# Altium schematic symbol library ICs_Clock.SchLib: 16 symbols
Pins are listed as number, name and electrical type; pins without a type are passive.

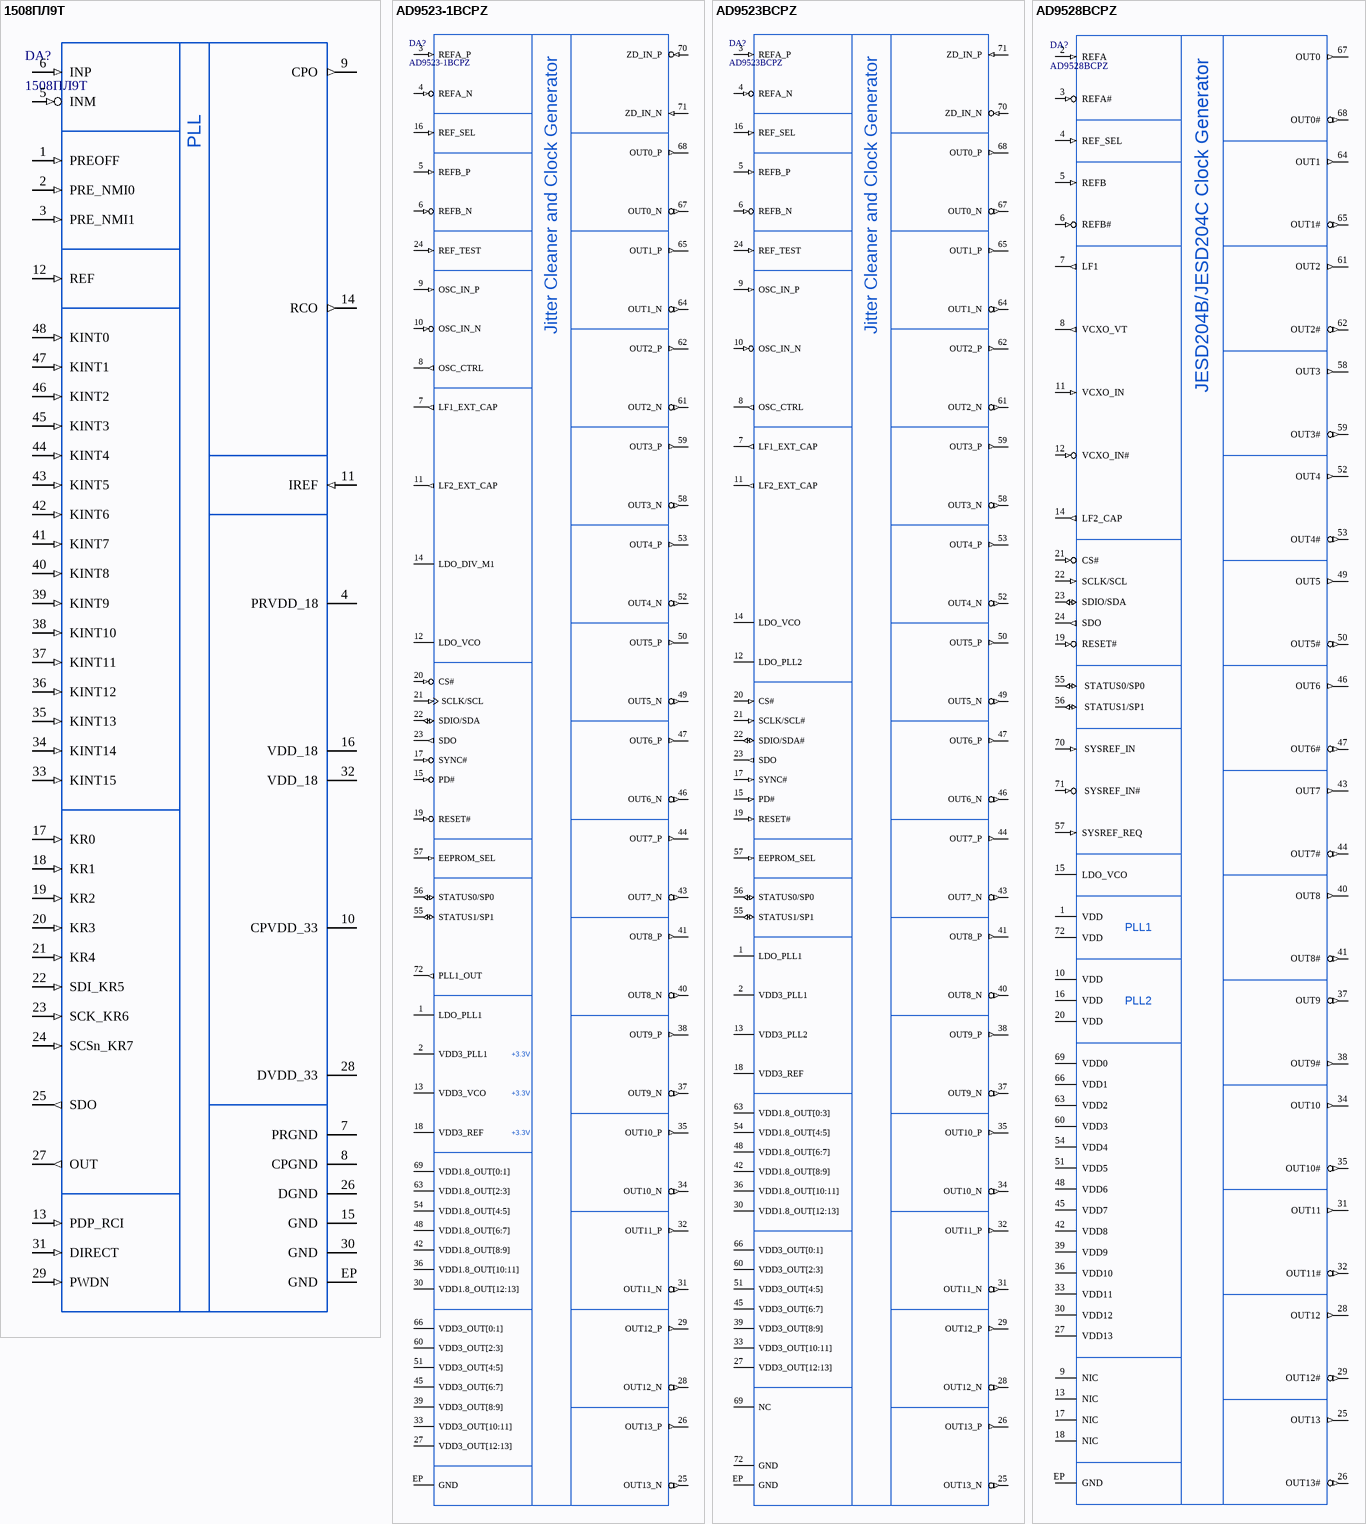
[diagram p0: symbols 1508ПЛ9Т to AD9528BCPZ]

## 1508ПЛ9Т
designator DA?
Low-Noise PLL; Manufacturer: ОАО НПЦ "ЭЛВИС"; ItemType: IC; PartNumber: 1508ПЛ9Т; Package: LQFP-48; Marking: 1508ПЛ9Т; ItemSubType: PLL; Mounting: SMD
footprint LQFP48_ELVEES (LQFP, 48-Leads, Body 7,00x7,00mm, Pitch 0,50mm)
pins: 1 PREOFF (in), 2 PRE_NMI0 (in), 3 PRE_NMI1 (in), 4 PRVDD_18 (power), 5 INM (in), 6 INP (in), 7 PRGND, 8 CPGND, 9 CPO (out), 10 CPVDD_33 (power), 11 IREF (in), 12 REF (in), 13 PDP_RCI (in), 14 RCO (out), 15 GND, 16 VDD_18 (power), 17 KR0 (in), 18 KR1 (in), 19 KR2 (in), 20 KR3 (in), 21 KR4 (in), 22 SDI_KR5 (in), 23 SCK_KR6 (in), 24 SCSn_KR7 (in), 25 SDO (out), 26 DGND, 27 OUT (out), 28 DVDD_33 (power), 29 PWDN (in), 30 GND, 31 DIRECT (in), 32 VDD_18 (power), 33 KINT15 (in), 34 KINT14 (in), 35 KINT13 (in), 36 KINT12 (in), 37 KINT11 (in), 38 KINT10 (in), 39 KINT9 (in), 40 KINT8 (in), 41 KINT7 (in), 42 KINT6 (in), 43 KINT5 (in), 44 KINT4 (in), 45 KINT3 (in), 46 KINT2 (in), 47 KINT1 (in), 48 KINT0 (in), EP GND

## AD9523-1BCPZ
designator DA?
Jitter Cleaner and Clock Generator with 14 Differential or 29 LVCMOS Outputs; Manufacturer: Analog Devices; ItemType: IC; Alternative1: AD9523-1BCPZ-REEL7; PartNumber: AD9523-1BCPZ; Package: LFCSP-72; ItemSubType: Clock; AltManufacturer1: Analog Devices; Mounting: SMD
footprint LFCSP-72 (CP-72-7) (LFCSP, 72-Leads, Body 10x10mm, Pitch 0.50mm, Thermal Pad 5.30x5.30mm. Compliant to JEDEC standards MO-220-VNND-4)
pins: 1 LDO_PLL1 (power), 2 VDD3_PLL1 (power), 3 REFA_P (in), 4 REFA_N (in), 5 REFB_P (in), 6 REFB_N (in), 7 LF1_EXT_CAP (out), 8 OSC_CTRL (out), 9 OSC_IN_P (in), 10 OSC_IN_N (in), 11 LF2_EXT_CAP (out), 12 LDO_VCO (power), 13 VDD3_VCO (power), 14 LDO_DIV_M1 (power), 15 PD# (in), 16 REF_SEL (in), 17 SYNC# (in), 18 VDD3_REF (power), 19 RESET# (in), 20 CS# (in), 21 SCLK/SCL (in), 22 SDIO/SDA (io), 23 SDO (out), 24 REF_TEST (in), 25 OUT13_N (out), 26 OUT13_P (out), 27 VDD3_OUT[12:13] (power), 28 OUT12_N (out), 29 OUT12_P (out), 30 VDD1.8_OUT[12:13] (power), 31 OUT11_N (out), 32 OUT11_P (out), 33 VDD3_OUT[10:11] (power), 34 OUT10_N (out), 35 OUT10_P (out), 36 VDD1.8_OUT[10:11] (power), 37 OUT9_N (out), 38 OUT9_P (out), 39 VDD3_OUT[8:9] (power), 40 OUT8_N (out), 41 OUT8_P (out), 42 VDD1.8_OUT[8:9] (power), 43 OUT7_N (out), 44 OUT7_P (out), 45 VDD3_OUT[6:7] (power), 46 OUT6_N (out), 47 OUT6_P (out), 48 VDD1.8_OUT[6:7] (power), 49 OUT5_N (out), 50 OUT5_P (out), 51 VDD3_OUT[4:5] (power), 52 OUT4_N (out), 53 OUT4_P (out), 54 VDD1.8_OUT[4:5] (power), 55 STATUS1/SP1 (io), 56 STATUS0/SP0 (io), 57 EEPROM_SEL (in), 58 OUT3_N (out), 59 OUT3_P (out), 60 VDD3_OUT[2:3] (power), 61 OUT2_N (out), 62 OUT2_P (out), 63 VDD1.8_OUT[2:3] (power), 64 OUT1_N (out), 65 OUT1_P (out), 66 VDD3_OUT[0:1] (power), 67 OUT0_N (out), 68 OUT0_P (out), 69 VDD1.8_OUT[0:1] (power), 70 ZD_IN_P (in), 71 ZD_IN_N (in), 72 PLL1_OUT (out), EP GND
text: Jitter Cleaner and Clock Generator; +3.3V

## AD9523BCPZ
designator DA?
Jitter Cleaner and Clock Generator with 14 Differential or 29 LVCMOS Outputs; Manufacturer: Analog Devices; ItemType: IC; Alternative1: AD9523BCPZ-REEL7; PartNumber: AD9523BCPZ; Package: LFCSP-72; ItemSubType: Clock; AltManufacturer1: Analog Devices; Mounting: SMD
footprint LFCSP-72 (CP-72-6) (LFCSP, 72-Leads, Body 10x10mm, Pitch 0.50mm, Thermal Pad 5.30x5.30mm. Compliant to JEDEC standards MO-220-VNND-4)
pins: 1 LDO_PLL1 (power), 2 VDD3_PLL1 (power), 3 REFA_P (in), 4 REFA_N (in), 5 REFB_P (in), 6 REFB_N (in), 7 LF1_EXT_CAP (out), 8 OSC_CTRL (out), 9 OSC_IN_P (in), 10 OSC_IN_N (in), 11 LF2_EXT_CAP (out), 12 LDO_PLL2 (power), 13 VDD3_PLL2 (power), 14 LDO_VCO (power), 15 PD# (in), 16 REF_SEL (in), 17 SYNC# (in), 18 VDD3_REF (power), 19 RESET# (in), 20 CS# (in), 21 SCLK/SCL# (in), 22 SDIO/SDA# (io), 23 SDO (out), 24 REF_TEST (in), 25 OUT13_N (out), 26 OUT13_P (out), 27 VDD3_OUT[12:13] (power), 28 OUT12_N (out), 29 OUT12_P (out), 30 VDD1.8_OUT[12:13] (power), 31 OUT11_N (out), 32 OUT11_P (out), 33 VDD3_OUT[10:11] (power), 34 OUT10_N (out), 35 OUT10_P (out), 36 VDD1.8_OUT[10:11] (power), 37 OUT9_N (out), 38 OUT9_P (out), 39 VDD3_OUT[8:9] (power), 40 OUT8_N (out), 41 OUT8_P (out), 42 VDD1.8_OUT[8:9] (power), 43 OUT7_N (out), 44 OUT7_P (out), 45 VDD3_OUT[6:7] (power), 46 OUT6_N (out), 47 OUT6_P (out), 48 VDD1.8_OUT[6:7] (power), 49 OUT5_N (out), 50 OUT5_P (out), 51 VDD3_OUT[4:5] (power), 52 OUT4_N (out), 53 OUT4_P (out), 54 VDD1.8_OUT[4:5] (power), 55 STATUS1/SP1 (io), 56 STATUS0/SP0 (io), 57 EEPROM_SEL (in), 58 OUT3_N (out), 59 OUT3_P (out), 60 VDD3_OUT[2:3] (power), 61 OUT2_N (out), 62 OUT2_P (out), 63 VDD1.8_OUT[0:3] (power), 64 OUT1_N (out), 65 OUT1_P (out), 66 VDD3_OUT[0:1] (power), 67 OUT0_N (out), 68 OUT0_P (out), 69 NC (hiz), 70 ZD_IN_N (in), 71 ZD_IN_P (in), 72 GND, EP GND
text: Jitter Cleaner and Clock Generator

## AD9528BCPZ
designator DA?
JESD204B/JESD204C Clock Generator with 14 LVDS/HSTL Outputs; Manufacturer: Analog Devices; ItemType: IC; Alternative1: AD9528BCPZ-REEL7; PartNumber: AD9528BCPZ; Package: LFCSP-72; ItemSubType: Clock; AltManufacturer1: Analog Devices; Mounting: SMD
footprint LFCSP-72 (CP-72-6) (LFCSP, 72-Leads, Body 10x10mm, Pitch 0.50mm, Thermal Pad 5.30x5.30mm. Compliant to JEDEC standards MO-220-VNND-4)
pins: 1 VDD (power), 2 REFA (in), 3 REFA# (in), 4 REF_SEL (in), 5 REFB (in), 6 REFB# (in), 7 LF1 (out), 8 VCXO_VT (out), 9 NIC (hiz), 10 VDD (power), 11 VCXO_IN (in), 12 VCXO_IN# (in), 13 NIC (hiz), 14 LF2_CAP (out), 15 LDO_VCO (power), 16 VDD (power), 17 NIC (hiz), 18 NIC (hiz), 19 RESET# (in), 20 VDD (power), 21 CS# (in), 22 SCLK/SCL (in), 23 SDIO/SDA (io), 24 SDO (out), 25 OUT13 (out), 26 OUT13# (out), 27 VDD13 (power), 28 OUT12 (out), 29 OUT12# (out), 30 VDD12 (power), 31 OUT11 (out), 32 OUT11# (out), 33 VDD11 (power), 34 OUT10 (out), 35 OUT10# (out), 36 VDD10 (power), 37 OUT9 (out), 38 OUT9# (out), 39 VDD9 (power), 40 OUT8 (out), 41 OUT8# (out), 42 VDD8 (power), 43 OUT7 (out), 44 OUT7# (out), 45 VDD7 (power), 46 OUT6 (out), 47 OUT6# (out), 48 VDD6 (power), 49 OUT5 (out), 50 OUT5# (out), 51 VDD5 (power), 52 OUT4 (out), 53 OUT4# (out), 54 VDD4 (power), 55  STATUS0/SP0 (io), 56  STATUS1/SP1 (io), 57 SYSREF_REQ (in), 58 OUT3 (out), 59 OUT3# (out), 60 VDD3 (power), 61 OUT2 (out), 62 OUT2# (out), 63 VDD2 (power), 64 OUT1 (out), 65 OUT1# (out), 66 VDD1 (power), 67 OUT0 (out), 68 OUT0# (out), 69 VDD0 (power), 70  SYSREF_IN (in), 71  SYSREF_IN# (in), 72 VDD (power), EP GND
text: JESD204B/JESD204C Clock Generator; PLL1; PLL2

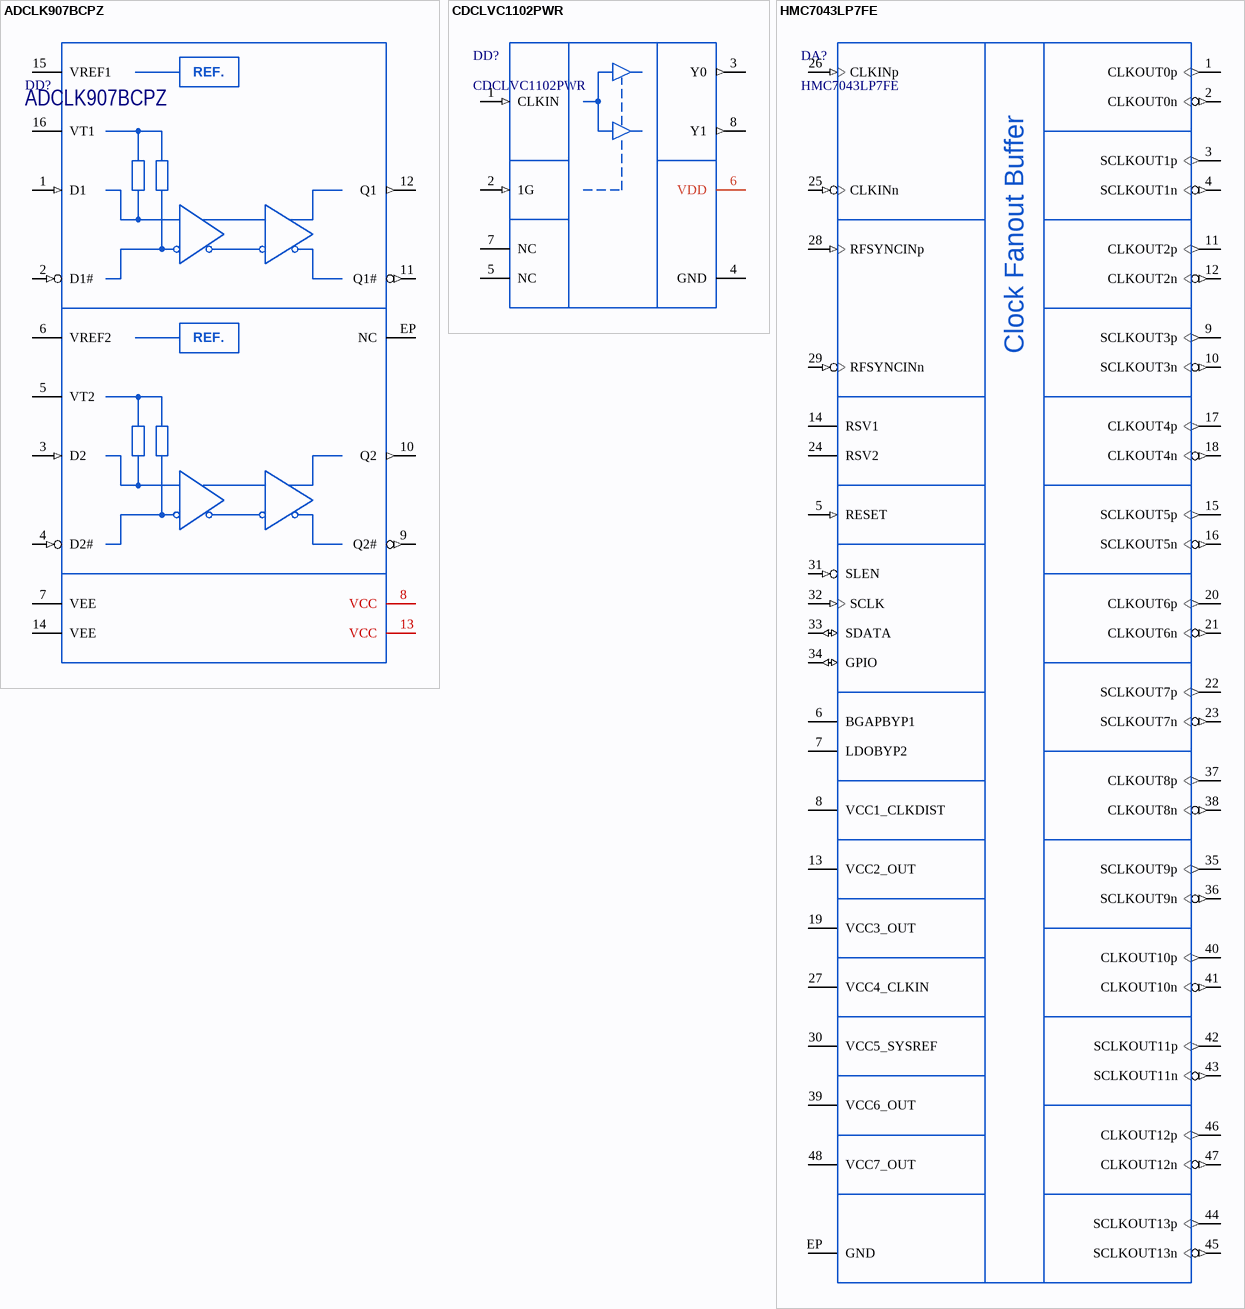
[diagram p1: symbols ADCLK907BCPZ to HMC7043LP7FE]

## ADCLK907BCPZ
designator DD?
Ultrafast SiGe ECL Clock/Data Buffers; Manufacturer: Analog Devices; Marking: Y06; ItemType: IC; ItemSubType: Clock Buffer; Package: LFCSP-16; PartNumber: ADCLK907BCPZ; Mounting: SMD
footprint LFCSP-16(CP-16-27) (QFN, 16-Leads, Body 3x3mm, Pitch 0.50mm, Thermal Pad 1.50x1.50mm. Compliant to JEDEC standards MO-220-WEED-6)
pins: 1 D1 (in), 2 D1# (in), 3 D2 (in), 4 D2# (in), 5 VT2, 6 VREF2, 7 VEE (power), 8 VCC (power), 9 Q2# (out), 10 Q2 (out), 11 Q1# (out), 12 Q1 (out), 13 VCC (power), 14 VEE (power), 15 VREF1, 16 VT1, EP NC (hiz)
text: REF.

## CDCLVC1102PWR
designator DD?
3.3-V and 2.5-V LVCMOS High-Performance Clock Buffer; Manufacturer: Texas Instruments; Marking: C9C2; ItemType: IC; ItemSubType: Fanout Buffer; PartNumber: CDCLVC1102PWR; Package: TSSOP-8; Mounting: SMD
footprint TSSOP8_PW0008A (TSSOP, 8-Leads, Body 3.0x4.40mm, Pitch 0.65mm TI case style PW0008A)
pins: 1 CLKIN (in), 2 1G (in), 3 Y0 (out), 4 GND, 5 NC (hiz), 6 VDD (power), 7 NC (hiz), 8 Y1 (out)

## HMC7043LP7FE
designator DA?
High Performance, 3.2 GHz, 14-Output Fanout Buffer; Manufacturer: Analog Devices; Marking: 7043; ItemType: IC; ItemSubType: Fanout Clock; PartNumber: HMC7043LP7FE; Package: LFCSP-48 (7mm x 7mm x 0.9mm); Mounting: SMD
footprint LFCSP-48(HCP-48-1) (QFN, 48-Leads, Body 7x7mm, Pitch 0.50mm, Thermal Pad 5.60x5.60mm, IPC Medium Density)
pins: 1 CLKOUT0p (out), 2 CLKOUT0n (out), 3 SCLKOUT1p (out), 4 SCLKOUT1n (out), 5 RESET (in), 6 BGAPBYP1, 7 LDOBYP2, 8 VCC1_CLKDIST (power), 9 SCLKOUT3p (out), 10 SCLKOUT3n (out), 11 CLKOUT2p (out), 12 CLKOUT2n (out), 13 VCC2_OUT (power), 14 RSV1 (hiz), 15 SCLKOUT5p (out), 16 SCLKOUT5n (out), 17 CLKOUT4p (out), 18 CLKOUT4n (out), 19 VCC3_OUT (power), 20 CLKOUT6p (out), 21 CLKOUT6n (out), 22 SCLKOUT7p (out), 23 SCLKOUT7n (out), 24 RSV2 (hiz), 25 CLKINn (in), 26 CLKINp (in), 27 VCC4_CLKIN (power), 28 RFSYNCINp (in), 29 RFSYNCINn (in), 30 VCC5_SYSREF (power), 31 SLEN (in), 32 SCLK (in), 33 SDATA (io), 34 GPIO (io), 35 SCLKOUT9p (out), 36 SCLKOUT9n (out), 37 CLKOUT8p (out), 38 CLKOUT8n (out), 39 VCC6_OUT (power), 40 CLKOUT10p (out), 41 CLKOUT10n (out), 42 SCLKOUT11p (out), 43 SCLKOUT11n (out), 44 SCLKOUT13p (out), 45 SCLKOUT13n (out), 46 CLKOUT12p (out), 47 CLKOUT12n (out), 48 VCC7_OUT (power), EP GND (power)
text: Clock Fanout Buffer

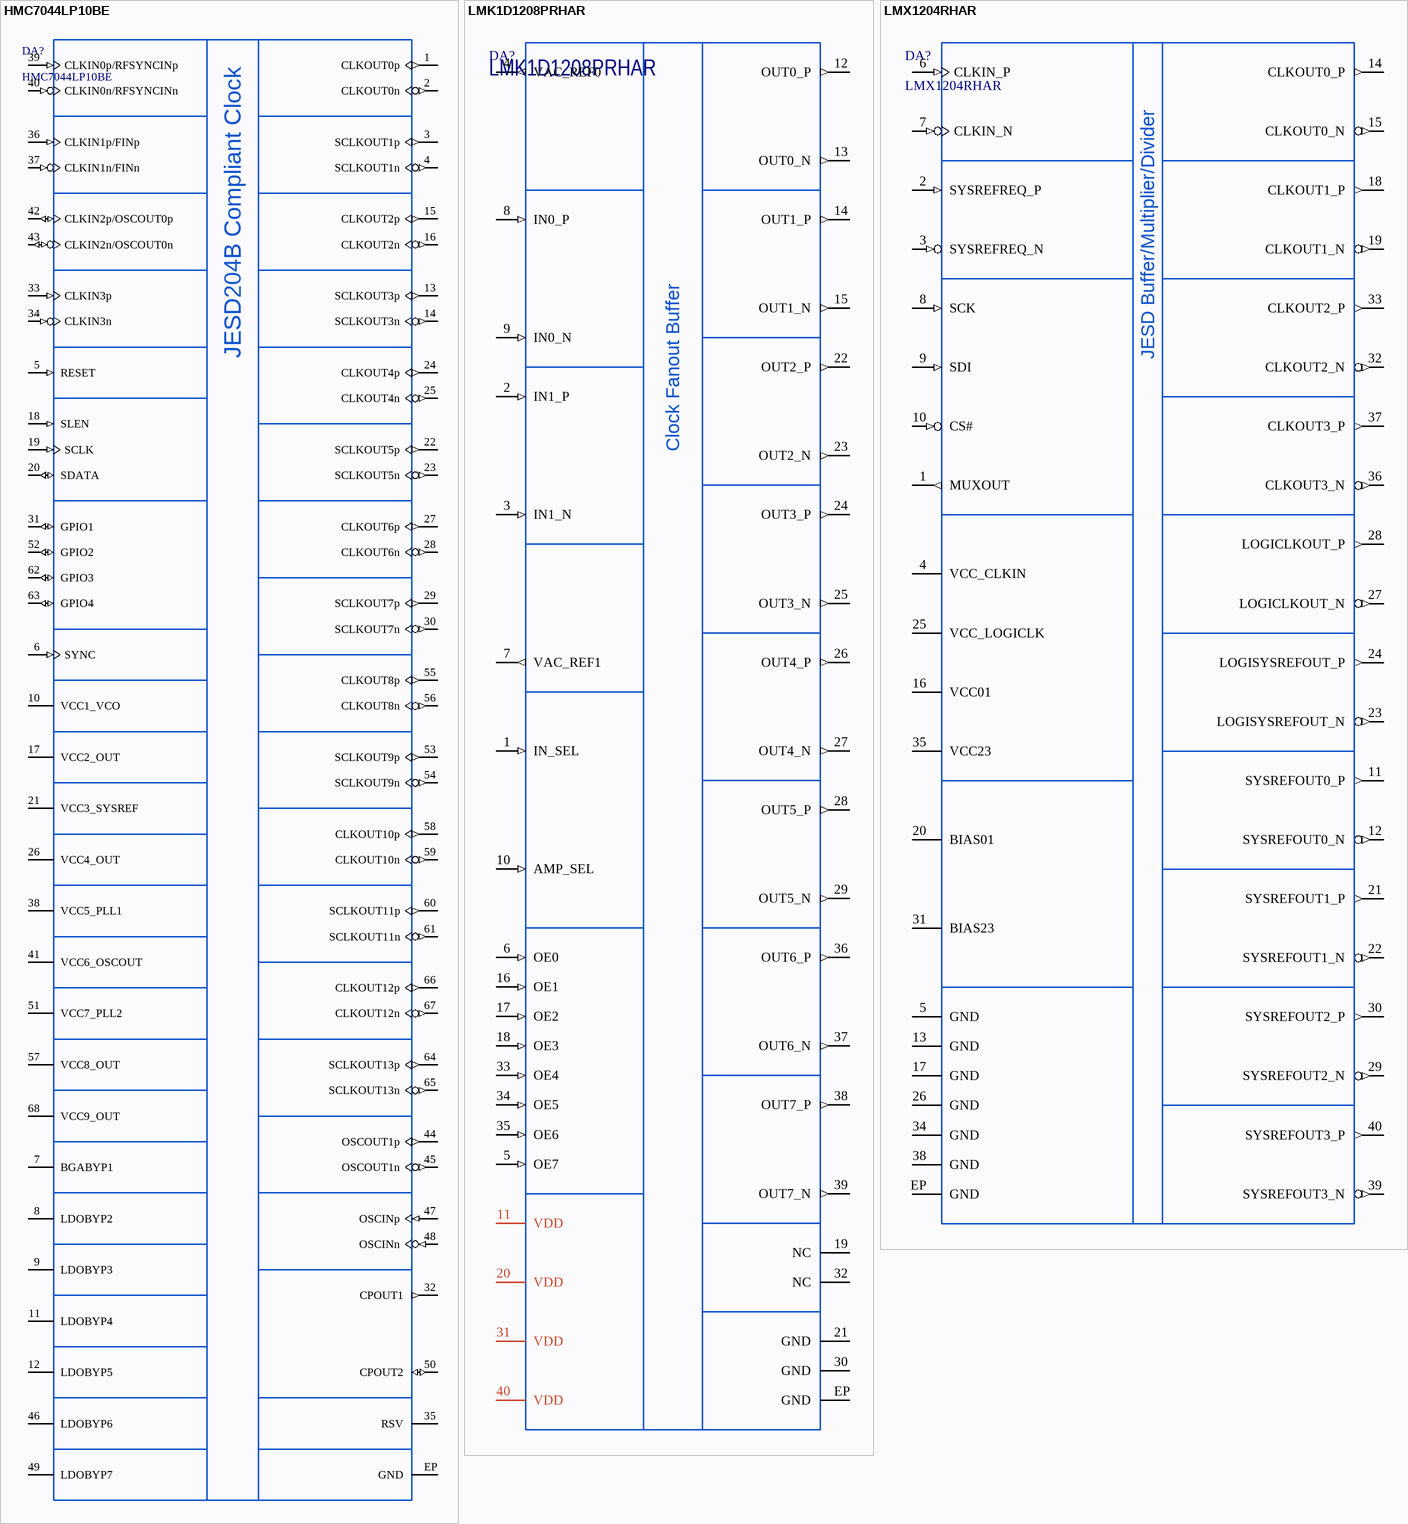
[diagram p2: symbols HMC7044LP10BE to LMX1204RHAR]

## HMC7044LP10BE
designator DA?
High Performance, 3.2 GHz, 14-Output Jitter Attenuator with JESD204B; Manufacturer: Analog Devices; Marking: 7044; ItemType: IC; ItemSubType: Fanout Clock; PartNumber: HMC7044LP10BE; Package: LFCSP-68 (10mm x 10mm x 0.9mm); Mounting: SMD
footprint QFN68_HMC7044 (HCP-68-1 case style)
pins: 1 CLKOUT0p (out), 2 CLKOUT0n (out), 3 SCLKOUT1p (out), 4 SCLKOUT1n (out), 5 RESET (in), 6 SYNC (in), 7 BGABYP1, 8 LDOBYP2, 9 LDOBYP3, 10 VCC1_VCO (power), 11 LDOBYP4, 12 LDOBYP5, 13 SCLKOUT3p (out), 14 SCLKOUT3n (out), 15 CLKOUT2p (out), 16 CLKOUT2n (out), 17 VCC2_OUT (power), 18 SLEN (in), 19 SCLK (in), 20 SDATA (io), 21 VCC3_SYSREF (power), 22 SCLKOUT5p (out), 23 SCLKOUT5n (out), 24 CLKOUT4p (out), 25 CLKOUT4n (out), 26 VCC4_OUT (power), 27 CLKOUT6p (out), 28 CLKOUT6n (out), 29 SCLKOUT7p (out), 30 SCLKOUT7n (out), 31 GPIO1 (io), 32 CPOUT1 (out), 33 CLKIN3p (in), 34 CLKIN3n (in), 35 RSV (hiz), 36 CLKIN1p/FINp (in), 37 CLKIN1n/FINn (in), 38 VCC5_PLL1 (power), 39 CLKIN0p/RFSYNCINp (in), 40 CLKIN0n/RFSYNCINn (in), 41 VCC6_OSCOUT (power), 42 CLKIN2p/OSCOUT0p (io), 43 CLKIN2n/OSCOUT0n (io), 44 OSCOUT1p (out), 45 OSCOUT1n (out), 46 LDOBYP6, 47 OSCINp (in), 48 OSCINn (in), 49 LDOBYP7, 50 CPOUT2 (io), 51 VCC7_PLL2 (power), 52 GPIO2 (io), 53 SCLKOUT9p (out), 54 SCLKOUT9n (out), 55 CLKOUT8p (out), 56 CLKOUT8n (out), 57 VCC8_OUT (power), 58 CLKOUT10p (out), 59 CLKOUT10n (out), 60 SCLKOUT11p (out), 61 SCLKOUT11n (out), 62 GPIO3 (io), 63 GPIO4 (io), 64 SCLKOUT13p (out), 65 SCLKOUT13n (out), 66 CLKOUT12p (out), 67 CLKOUT12n (out), 68 VCC9_OUT (power), EP GND (power)
text: JESD204B Compliant Clock

## LMK1D1208PRHAR
designator DA?
Low Additive Jitter LVDS Buffer; Manufacturer: Texas Instruments; ItemType: IC; ItemSubType: Fanout Clock; Alternative1: LMK1D1208PRHAT; Package: VQFN-40; PartNumber: LMK1D1208PRHAR; AltManufacturer1: Texas Instruments; Mounting: SMD
footprint VQFN40_RHA0040B (QFN, 40-Leads, Body 6x6mm, Pitch 0.50mm, Thermal Pad 4.150x4.15mm.  TI case RHA0040B)
pins: 1 IN_SEL (in), 2 IN1_P (in), 3 IN1_N (in), 4 VAC_REF0 (out), 5 OE7 (in), 6 OE0 (in), 7 VAC_REF1 (out), 8 IN0_P (in), 9 IN0_N (in), 10 AMP_SEL (in), 11 VDD (power), 12 OUT0_P (out), 13 OUT0_N (out), 14 OUT1_P (out), 15 OUT1_N (out), 16 OE1 (in), 17 OE2 (in), 18 OE3 (in), 19 NC, 20 VDD (power), 21 GND, 22 OUT2_P (out), 23 OUT2_N (out), 24 OUT3_P (out), 25 OUT3_N (out), 26 OUT4_P (out), 27 OUT4_N (out), 28 OUT5_P (out), 29 OUT5_N (out), 30 GND, 31 VDD (power), 32 NC, 33 OE4 (in), 34 OE5 (in), 35 OE6 (in), 36 OUT6_P (out), 37 OUT6_N (out), 38 OUT7_P (out), 39 OUT7_N (out), 40 VDD (power), EP GND
text: Clock Fanout Buffer

## LMX1204RHAR
designator DA?
Low-Noise, High-Frequency JESD Buffer/Multiplier/Divider; Manufacturer: Texas Instruments; ItemType: IC; ItemSubType: Fanout Clock; Alternative1: LMX1204RHAT; PartNumber: LMX1204RHAR; Package: VQFN-40; Marking: LMX1204; AltManufacturer1: Texas Instruments; Mounting: SMD
footprint VQFN40_RHA0040C (VQFN 6mm x 6mm, TI case RHA0040C)
pins: 1 MUXOUT (out), 2 SYSREFREQ_P (in), 3 SYSREFREQ_N (in), 4 VCC_CLKIN (power), 5 GND, 6 CLKIN_P (in), 7 CLKIN_N (in), 8 SCK (in), 9 SDI (in), 10 CS# (in), 11 SYSREFOUT0_P (out), 12 SYSREFOUT0_N (out), 13 GND, 14 CLKOUT0_P (out), 15 CLKOUT0_N (out), 16 VCC01 (power), 17 GND, 18 CLKOUT1_P (out), 19 CLKOUT1_N (out), 20 BIAS01, 21 SYSREFOUT1_P (out), 22 SYSREFOUT1_N (out), 23 LOGISYSREFOUT_N (out), 24 LOGISYSREFOUT_P (out), 25 VCC_LOGICLK (power), 26 GND, 27 LOGICLKOUT_N (out), 28 LOGICLKOUT_P (out), 29 SYSREFOUT2_N (out), 30 SYSREFOUT2_P (out), 31 BIAS23, 32 CLKOUT2_N (out), 33 CLKOUT2_P (out), 34 GND, 35 VCC23 (power), 36 CLKOUT3_N (out), 37 CLKOUT3_P (out), 38 GND, 39 SYSREFOUT3_N (out), 40 SYSREFOUT3_P (out), EP GND
text: JESD Buffer/Multiplier/Divider

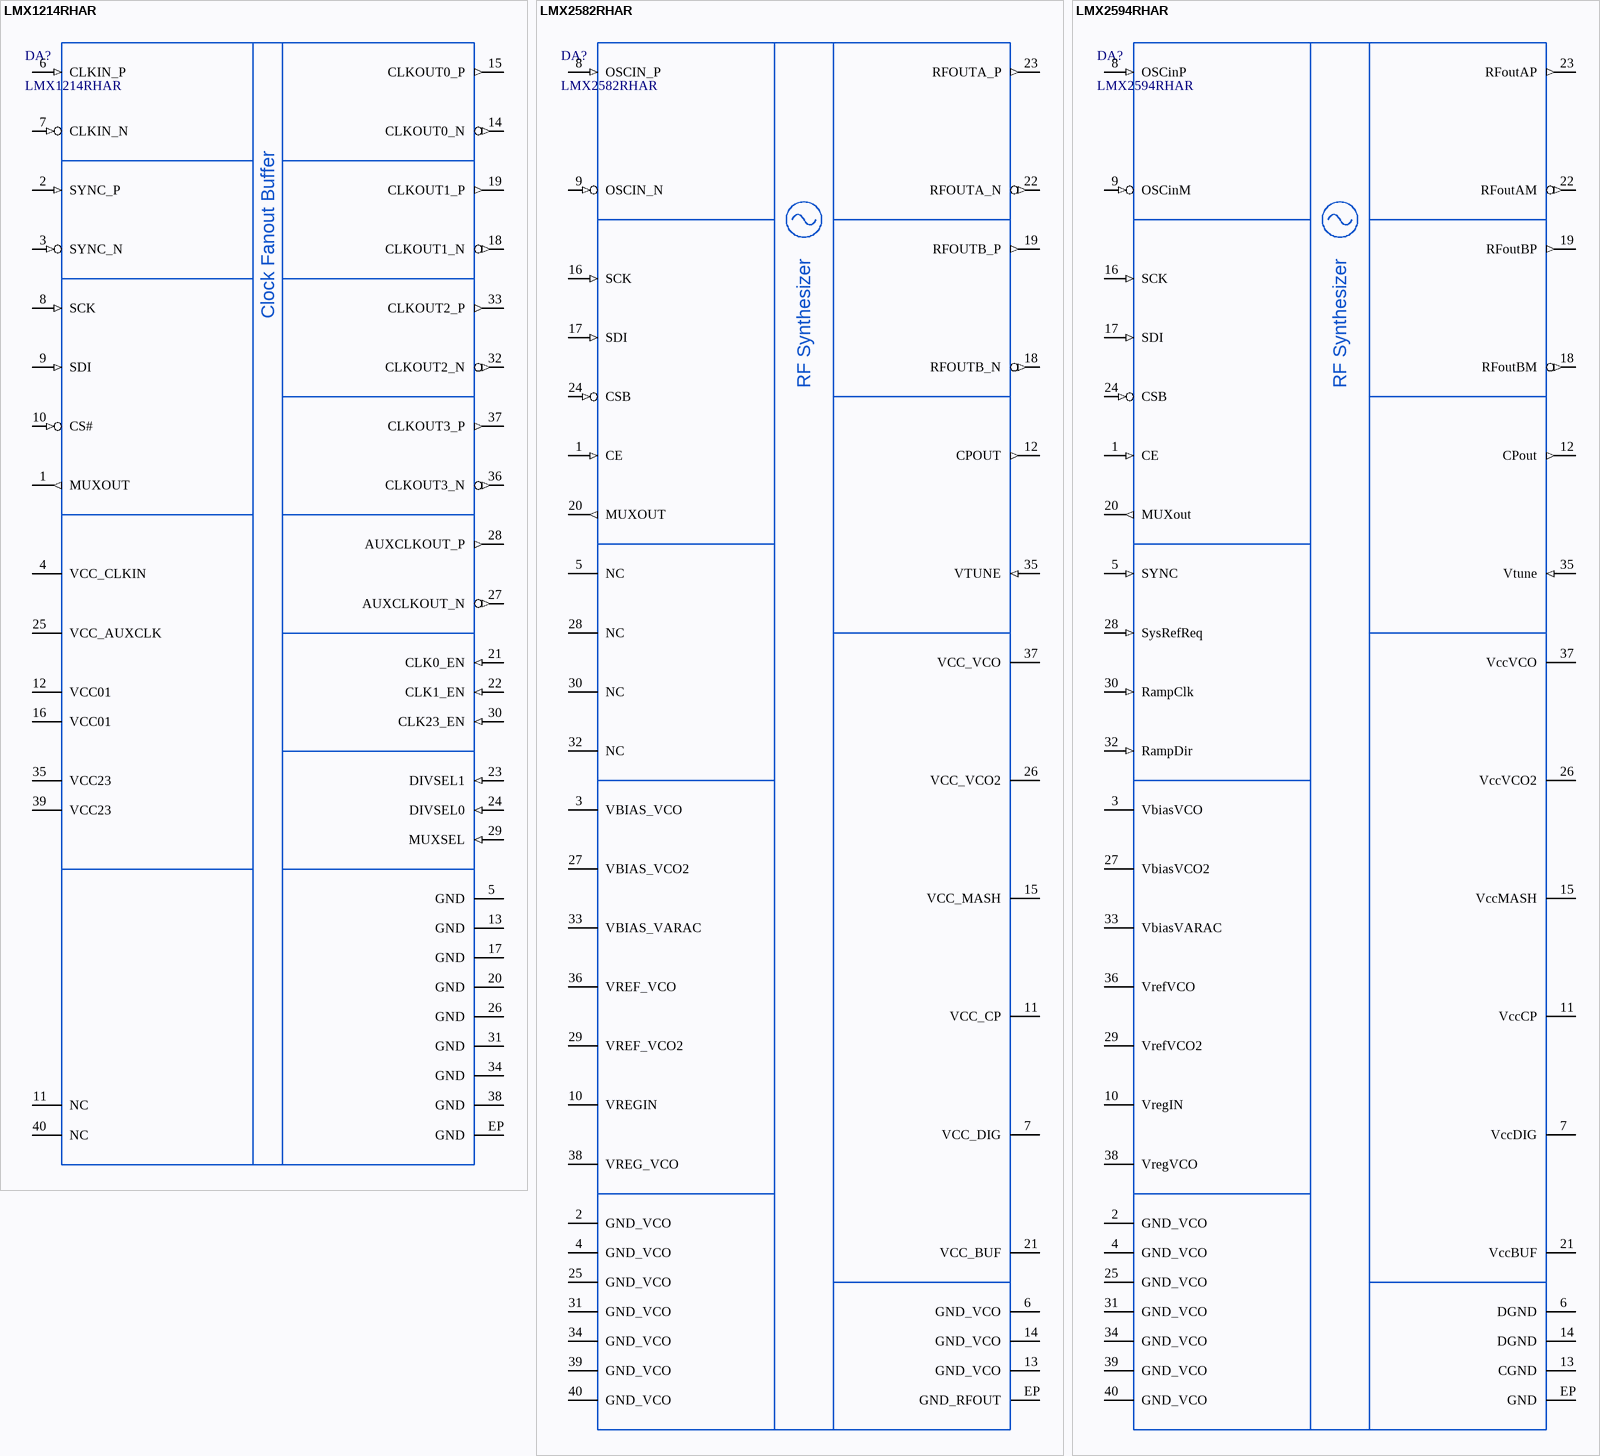
[diagram p3: symbols LMX1214RHAR to LMX2594RHAR]

## LMX1214RHAR
designator DA?
Low-Noise, High-Frequency Buffer and Divider; Manufacturer: Texas Instruments; ItemType: IC; ItemSubType: Fanout Clock; Alternative1: LMX1214RHAT; PartNumber: LMX1214RHAR; Package: VQFN-40; Marking: LMX1214; AltManufacturer1: Texas Instruments; Mounting: SMD
footprint VQFN40_RHA0040C (VQFN 6mm x 6mm, TI case RHA0040C)
pins: 1 MUXOUT (out), 2 SYNC_P (in), 3 SYNC_N (in), 4 VCC_CLKIN (power), 5 GND, 6 CLKIN_P (in), 7 CLKIN_N (in), 8 SCK (in), 9 SDI (in), 10 CS# (in), 11 NC (hiz), 12 VCC01 (power), 13 GND, 14 CLKOUT0_N (out), 15 CLKOUT0_P (out), 16 VCC01 (power), 17 GND, 18 CLKOUT1_N (out), 19 CLKOUT1_P (out), 20 GND, 21 CLK0_EN (in), 22 CLK1_EN (in), 23 DIVSEL1 (in), 24 DIVSEL0 (in), 25 VCC_AUXCLK (power), 26 GND, 27 AUXCLKOUT_N (out), 28 AUXCLKOUT_P (out), 29 MUXSEL (in), 30 CLK23_EN (in), 31 GND, 32 CLKOUT2_N (out), 33 CLKOUT2_P (out), 34 GND, 35 VCC23 (power), 36 CLKOUT3_N (out), 37 CLKOUT3_P (out), 38 GND, 39 VCC23 (power), 40 NC (hiz), EP GND
text: Clock Fanout Buffer

## LMX2582RHAR
designator DA?
RF Synthesizer With Integrated VCO; Manufacturer: Texas Instruments; ItemType: IC; ItemSubType: PLL; Alternative1: LMX2582RHAT; PartNumber: LMX2582RHAR; Package: VQFN-40; AltManufacturer1: Texas Instruments; Mounting: SMD
footprint VQFN40_RHA0040H (VQFN 6mm x 6mm, TI case RHA0040H)
pins: 1 CE (in), 2 GND_VCO, 3 VBIAS_VCO, 4 GND_VCO, 5 NC (hiz), 6 GND_VCO, 7 VCC_DIG (power), 8 OSCIN_P (in), 9 OSCIN_N (in), 10 VREGIN, 11 VCC_CP (power), 12 CPOUT (out), 13 GND_VCO, 14 GND_VCO, 15 VCC_MASH (power), 16 SCK (in), 17 SDI (in), 18 RFOUTB_N (out), 19 RFOUTB_P (out), 20 MUXOUT (out), 21 VCC_BUF (power), 22 RFOUTA_N (out), 23 RFOUTA_P (out), 24 CSB (in), 25 GND_VCO, 26 VCC_VCO2 (power), 27 VBIAS_VCO2, 28 NC (hiz), 29 VREF_VCO2, 30 NC (hiz), 31 GND_VCO, 32 NC (hiz), 33 VBIAS_VARAC, 34 GND_VCO, 35 VTUNE (in), 36 VREF_VCO, 37 VCC_VCO (power), 38 VREG_VCO, 39 GND_VCO, 40 GND_VCO, EP GND_RFOUT
text: RF Synthesizer

## LMX2594RHAR
designator DA?
RF Synthesizer With Integrated VCO and JESD204B Support; Manufacturer: Texas Instruments; ItemType: IC; ItemSubType: PLL; Alternative1: LMX2594RHAT; PartNumber: LMX2594RHAR; Package: VQFN-40; AltManufacturer1: Texas Instruments; Mounting: SMD
footprint VQFN40_RHA0040H (VQFN 6mm x 6mm, TI case RHA0040H)
pins: 1 CE (in), 2 GND_VCO, 3 VbiasVCO, 4 GND_VCO, 5 SYNC (in), 6 DGND, 7 VccDIG (power), 8 OSCinP (in), 9 OSCinM (in), 10 VregIN, 11 VccCP (power), 12 CPout (out), 13 CGND, 14 DGND, 15 VccMASH (power), 16 SCK (in), 17 SDI (in), 18 RFoutBM (out), 19 RFoutBP (out), 20 MUXout (out), 21 VccBUF (power), 22 RFoutAM (out), 23 RFoutAP (out), 24 CSB (in), 25 GND_VCO, 26 VccVCO2 (power), 27 VbiasVCO2, 28 SysRefReq (in), 29 VrefVCO2, 30 RampClk (in), 31 GND_VCO, 32 RampDir (in), 33 VbiasVARAC, 34 GND_VCO, 35 Vtune (in), 36 VrefVCO, 37 VccVCO (power), 38 VregVCO, 39 GND_VCO, 40 GND_VCO, EP GND
text: RF Synthesizer

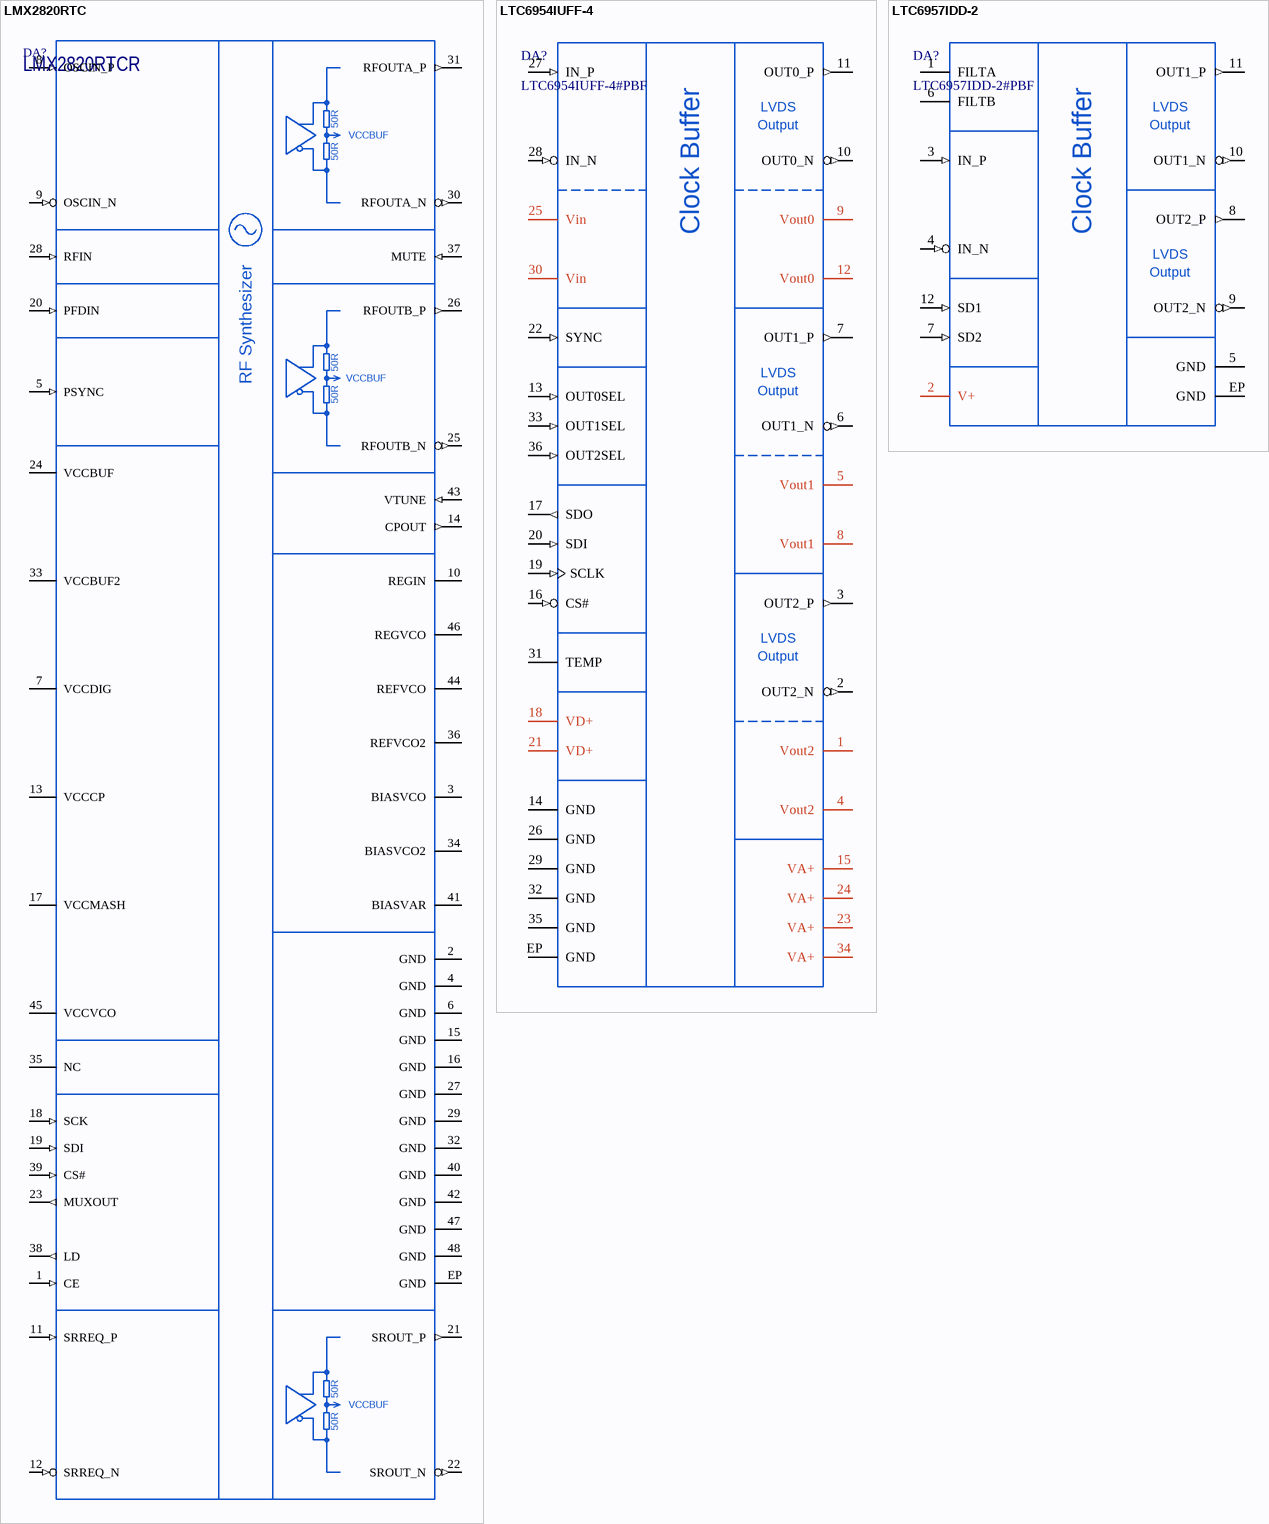
[diagram p4: symbols LMX2820RTC to LTC6957IDD-2]

## LMX2820RTC
designator DA?, comment LMX2820RTCR
RF Synthesizer With Phase Synchronization and JESD204B Support; Manufacturer: Texas Instruments; ItemType: IC; ItemSubType: PLL; Alternative1: LMX2820RTCT; Package: QFN-48; PartNumber: LMX2820RTCR; AltManufacturer1: Texas Instruments; Mounting: SMD
footprint VQFNP48_RTC0048G (QFN, 48-Leads, Body 7x7mm, Pitch 0.50mm, Thermal Pad 5.70x5.70mm. TI case RTC0048G)
pins: 1 CE (in), 2 GND, 3 BIASVCO, 4 GND, 5 PSYNC (in), 6 GND, 7 VCCDIG (power), 8 OSCIN_P (in), 9 OSCIN_N (in), 10 REGIN, 11 SRREQ_P (in), 12 SRREQ_N (in), 13 VCCCP (power), 14 CPOUT (out), 15 GND, 16 GND, 17 VCCMASH (power), 18 SCK (in), 19 SDI (in), 20 PFDIN (in), 21 SROUT_P (out), 22 SROUT_N (out), 23 MUXOUT (out), 24 VCCBUF (power), 25 RFOUTB_N (out), 26 RFOUTB_P (out), 27 GND, 28 RFIN (in), 29 GND, 30 RFOUTA_N (out), 31 RFOUTA_P (out), 32 GND, 33 VCCBUF2 (power), 34 BIASVCO2, 35 NC, 36 REFVCO2, 37 MUTE (in), 38 LD (out), 39 CS# (in), 40 GND, 41 BIASVAR, 42 GND, 43 VTUNE (in), 44 REFVCO, 45 VCCVCO (power), 46 REGVCO, 47 GND, 48 GND, EP GND
text: 50R; RF Synthesizer

## LTC6954IUFF-4
designator DA?, comment LTC6954IUFF-4#PBF
Low Phase Noise, Triple Output Clock Distribution Divider/Driver; Manufacturer: Analog Devices; Marking: 69544; ItemType: IC; ItemSubType: Fanout Buffer; Alternative1: LTC6954IUFF-4#TRPBF; PartNumber: LTC6954IUFF-4#PBF; Package: QFN-36; AltManufacturer1: Analog Devices; Mounting: SMD
footprint QFN36_LTC6954 (QFN, 36-Leads, Body 4x7mm, Pitch 0.50mm, Thermal Pad 2.64x5.61mm. Reference LTC DWG # 05-08-1863 Rev O)
pins: 1 Vout2 (power), 2 OUT2_N (out), 3 OUT2_P (out), 4 Vout2 (power), 5 Vout1 (power), 6 OUT1_N (out), 7 OUT1_P (out), 8 Vout1 (power), 9 Vout0 (power), 10 OUT0_N (out), 11 OUT0_P (out), 12 Vout0 (power), 13 OUT0SEL (in), 14 GND, 15 VA+ (power), 16 CS# (in), 17 SDO (out), 18 VD+ (power), 19 SCLK (in), 20 SDI (in), 21 VD+ (power), 22 SYNC (in), 23 VA+ (power), 24 VA+ (power), 25 Vin (power), 26 GND, 27 IN_P (in), 28 IN_N (in), 29 GND, 30 Vin (power), 31 TEMP, 32 GND, 33 OUT1SEL (in), 34 VA+ (power), 35 GND, 36 OUT2SEL (in), EP GND
text: Clock Buffer; LVDS; Output

## LTC6957IDD-2
designator DA?, comment LTC6957IDD-2#PBF
Low Phase Noise, Dual Output Buffer/Driver/ Logic Converter; Manufacturer: Analog Devices; Marking: LFQK; ItemType: IC; ItemSubType: Fanout Buffer; Alternative1: LTC6957IDD-2#TRPBF; PartNumber: LTC6957IDD-2#PBF; Package: DFN-12; AltManufacturer1: Analog Devices; Mounting: SMD
footprint DFN12_LTC6957 (Power DFN 3mm x 3mm, 0.45mm pitch)
pins: 1 FILTA, 2 V+ (power), 3 IN_P (in), 4 IN_N (in), 5 GND, 6 FILTB, 7 SD2 (in), 8 OUT2_P (out), 9 OUT2_N (out), 10 OUT1_N (out), 11 OUT1_P (out), 12 SD1 (in), EP GND
text: Clock Buffer; LVDS; Output